# EAGLE library part AP22653AFDZ-7 (library AP22653AFDZ-7)
Power Switch ICs - Power Distribution Load Switch W-DFN2020-6 T&R 3K Source: Datasheet <https://www.diodes.com//assets/Datasheets/AP22652_53_52A_53A.pdf>
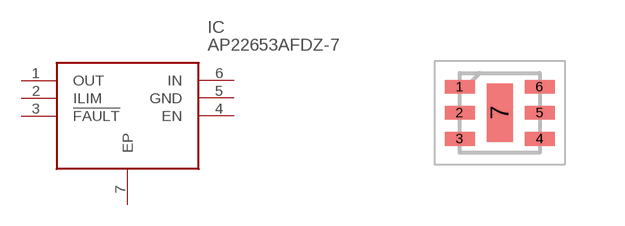
[diagram p0: symbol with the pads of SON65P200X200X80-7N; footprint SON65P200X200X80-7N]

Designator prefix IC

## AP22653AFDZ-7 (Description: Power Switch ICs - Power Distribution Load Switch W-DFN2020-6 T&R 3K; Height: 0.8mm; Manufacturer_Name: Diodes Incorporated; Manufacturer_Part_Number: AP22653AFDZ-7; Mouser_Part_Number: 621-AP22653AFDZ-7; Mouser_Price-Stock: https://www.mouser.co.uk/ProductDetail/Diodes-Incorporated/AP22653AFDZ-7?qs=W%2FMpXkg%252BdQ5j0cis9bApsQ%3D%3D)  [SON65P200X200X80-7N]
1  OUT
2  ILIM
3  !FAULT
4  EN
5  GND
6  IN
7  EP

## Footprint SON65P200X200X80-7N (pad centres in mm)
AP22653AFDZ-7-
smd 0.75 x 0.35: 1 -1,0.65; 2 -1,0; 3 -1,-0.65; 4 1,-0.65; 5 1,0; 6 1,0.65
smd 0.65 x 1.45: 7 0,0